# Altium footprint library MULTITESTCARD V1I1.PcbLib: 31 footprints (part 2 of 2)
Each footprint in its own frame and in the unit in brackets; x right, y up, seen from the top. Pads: shape width x height; smd on the part's side, far side on the other; paste and mask are expansions set on the pad; w line width, h text height; cw(c..) or ccw(c..) is an arc to the next point about the centre after c.
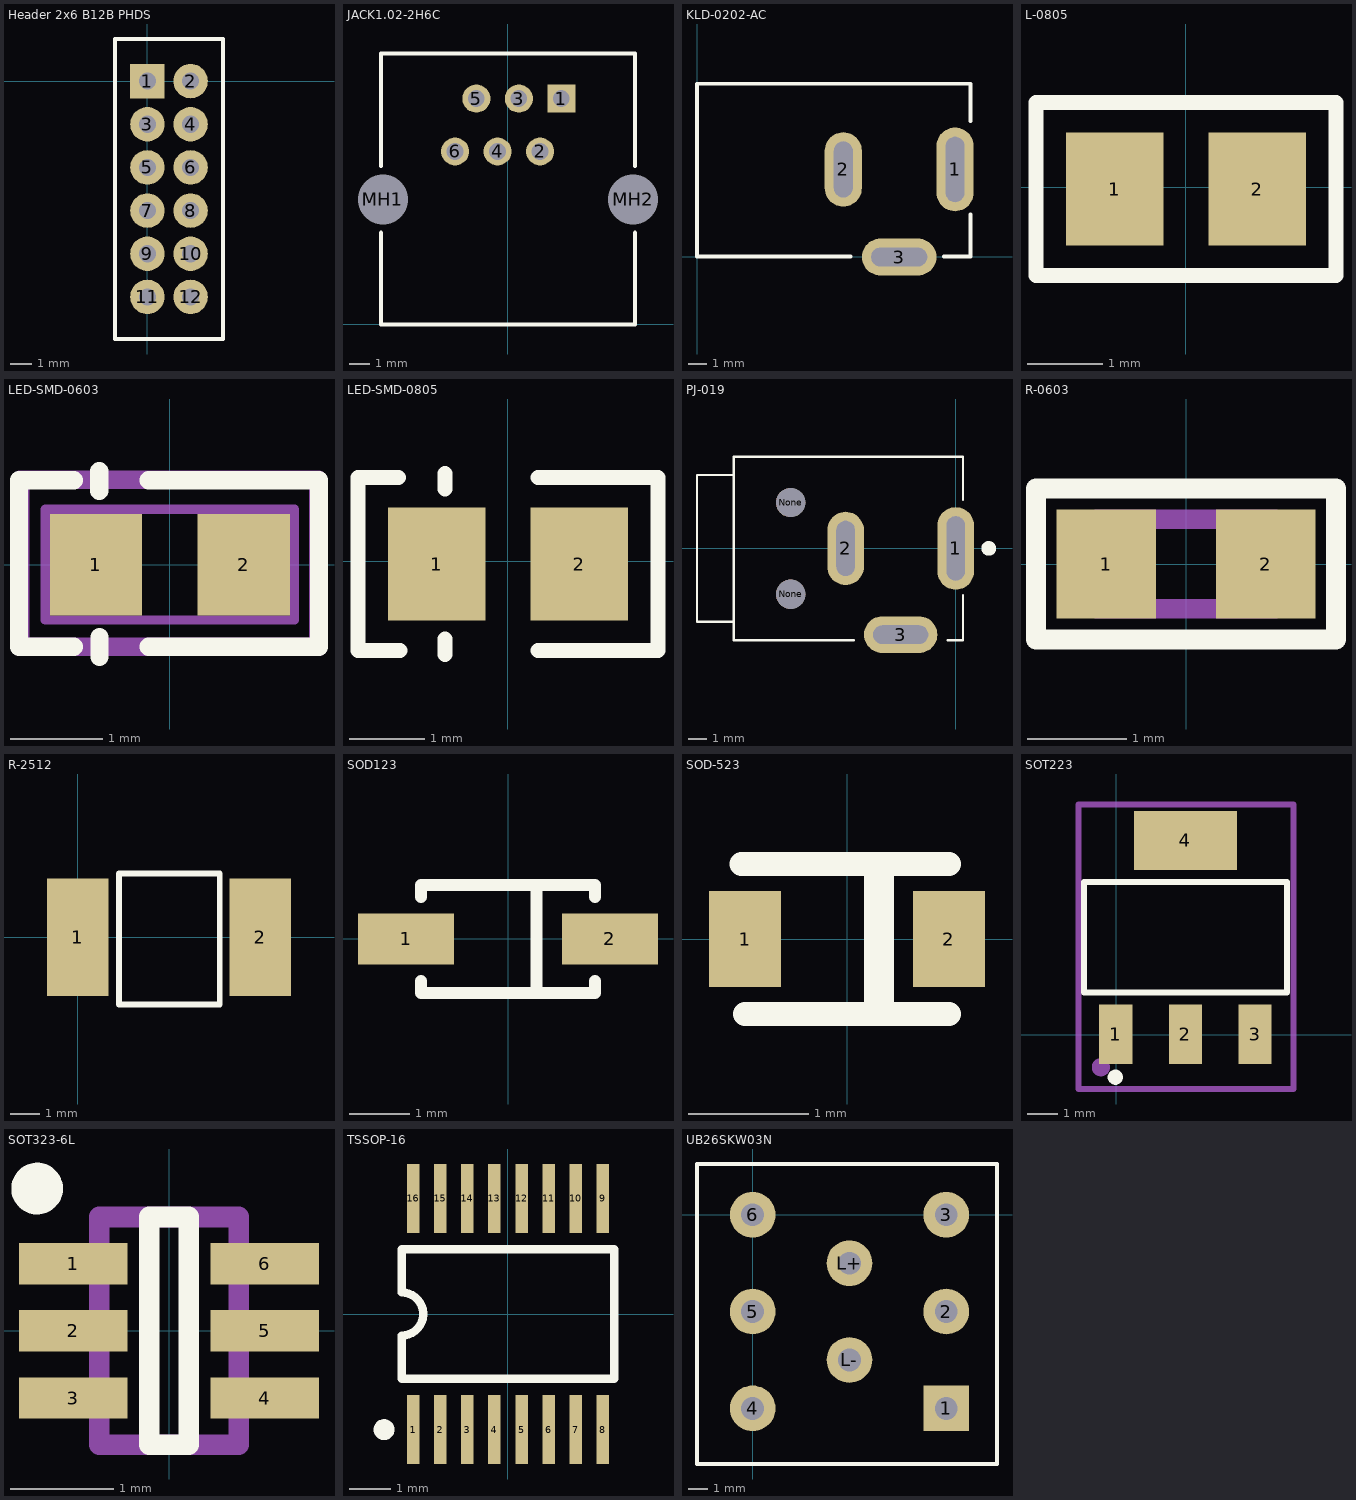
[diagram p1: the footprints below, top view; thin cyan lines are the x and y axes]

## Header 2x6 B12B PHDS [mm]
pads (12):
  rect 1.6x1.6 hole 0.8: 1(0,0)
  round 1.6 hole 0.8: 2(2,0) 3(0,-2) 4(2,-2) 5(0,-4) 6(2,-4) 7(0,-6) 8(2,-6) 9(0,-8) 10(2,-8) 11(0,-10) 12(2,-10)
Top Overlay:
  lines w0.2: -1.5,-11.95 3.5,-11.95 3.5,1.95 -1.5,1.95 -1.5,-11.95
3D body "DF11-12DP-2DSA (2).stp": height 6.86, standoff -2.74, extent -1.444,-11.953 3.556,2.047

## JACK1.02-2H6C [mm] "Connector; PCB Jack, Thru-Hole; 1-Port, 6 Positions, 6 Loaded; Unshielded without Lightpipes; Right Angle"
height 14.5
pads (8):
  rect 1.35x1.35 hole 0.8: 1(2.56,10.84)
  round 1.35 hole 0.8: 2(1.54,8.3) 3(0.52,10.84) 4(-0.5,8.3) 5(-1.52,10.84) 6(-2.54,8.3)
  round 2.1 hole 2.4 unplated: MH1(-6,6) MH2(6,6)
Top Overlay:
  lines w0.2: -6.1,4.4 -6.1,0 6.1,0 6.1,4.4 ; -6.1,7.6 -6.1,13 6.1,13 6.1,7.6
3D body: height 2.95, standoff 0, extent 5.057,5.052 6.95,6.948
3D body: height 2.95, standoff 0, extent -6.943,5.052 -5.05,6.948
3D body "520186646.stp": height 14.5, standoff -4, extent -7.15,0 7.15,13.3

## KLD-0202-AC [mm] "DC Power Jack, 2.5mm, KLD Series, PCB Mount"
pads (3):
  oval 2x4.5 hole 1 slot 3.5 at 90 deg: 1(13.85,4.675)
  oval 2x4 hole 1 slot 3 at 90 deg: 2(7.85,4.675)
  oval 4x2 hole 1 slot 3 at 0 deg: 3(10.85,-0.025)
Top Overlay:
  lines w0.2: 8.25,0 0,0 0,9.275 14.675,9.275 14.675,7.275 ; 13.25,0 14.675,0 14.675,2.275
3D body "pj-002b.stp": height 11.02, standoff -3.48, extent 0.141,-0.251 14.541,9.149

## L-0805 [mm] "0.079\" L x 0.049\" W (2.00mm x 1.25mm)"
height 1.45
pads (2):
  rect 1.3x1.5 smd: 1(-0.95,-0.025) 2(0.95,-0.025)
Top Overlay:
  lines w0.2: -2,-1.175 -2,1.125 0.4,1.125 2,1.125 2,-1.175 0.4,-1.175 -2,-1.175
3D body "User Library-User Library-Chip InductorINDC2012X130N.STEP": height 1.22, standoff 0.02, extent -1,-0.635 1,0.665

## LED-SMD-0603 [mm]
height 1
pads (2):
  rect 1x1.1 smd: 1(-0.8,0) 2(0.8,0)
Top Overlay:
  lines w0.2: -1.634,0.914 -1.634,-0.889 -1.283,-0.889 -1.041,-0.889 ; -1.626,0.914 -1.276,0.914 -1.041,0.914 ; -0.764,0.798 -0.764,1.008 ; -0.762,-0.997 -0.762,-0.787 ; -0.229,-0.889 1.181,-0.889 1.617,-0.889 1.617,0.914 -0.229,0.914
Mechanical 15:
  lines w0.1: -1.35,-0.6 -1.35,0.6 1.35,0.6 1.35,-0.6 -1.35,-0.6
Mechanical 31:
  circle w0.3: c-0.82,0.33 r0.15
  lines w0.2: -1.62,-0.889 -1.62,0.92 1.61,0.92 1.61,-0.889 -1.62,-0.889
  text ".Designator" at -0.34,-0.18 h0.4
3D body "SW3dPS-LED SMD0805.STEP": height 0.85, standoff 0.01, extent -1.031,-0.481 1.031,0.425

## LED-SMD-0805 [mm] "LED CHIPLED 570NM GREEN 0805 SMD"
pads (2):
  rect 1.3x1.5 smd: 1(-0.95,-0.035) 2(0.95,-0.035)
Top Overlay:
  lines w0.2: -1.46,1.115 -2,1.115 -2,-1.185 -1.44,-1.185 ; -0.84,-1.243 -0.84,-1.033 ; -0.84,0.964 -0.84,1.174 ; 0.4,-1.185 2,-1.185 2,1.115 0.4,1.115
3D body "SW3dPS-LED SMD0805.STEP": height 0.85, standoff 0.01, extent -1.031,-0.481 1.031,0.425

## PJ-019 [mm] "DC Power Jack, 2.5mm, KLD Series, PCB Mount"
pads (5):
  oval 2x4.5 hole 1 slot 3.5 at 90 deg: 1(0,0)
  oval 2x4 hole 1 slot 3 at 90 deg: 2(-6,0)
  oval 4x2 hole 1 slot 3 at 0 deg: 3(-3,-4.7)
  round 1.6 hole 1.6 unplated: None(-9,-2.5) None(-9,2.5)
Top Overlay:
  circle w0.4: c1.8,0 r0.2
  lines w0.127: -12.2,-4 -14.1,-4 -14.1,4 -12.2,4 ; -5.55,-5 -12.1,-5 -12.1,5 0.4,5 0.4,2.65 ; -0.45,-5 0.4,-5 0.4,-2.55
3D body "CUI_PJ-019.step": height 11.52, standoff -3.66, extent -14.119,-5 0.381,5

## R-0603 [mm] "RES 0603"
height 1
pads (2):
  rect 1x1.1 smd: 1(-0.8,0) 2(0.8,0)
Top Overlay:
  lines w0.2: -1.508,-0.757 -1.508,0.757 1.508,0.757 1.508,-0.757 -1.508,-0.757
Mechanical 13:
  lines w0.2: -0.9,-0.45 0.9,-0.45 0.9,0.45 -0.9,0.45 -0.9,-0.45
3D body "User Library-Panasonic0603.STEP": height 0.44, standoff -0.01, extent -0.8,-0.435 0.8,0.385

## R-2512 [mm] "RES 2512"
height 1
pads (2):
  rect 2.1x4 smd: 1(0,0) 2(6.2,0)
Top Overlay:
  lines w0.2: 1.397,-2.286 4.826,-2.286 4.826,2.159 1.397,2.159 1.397,-2.286
Mechanical 13:
  lines w0.2: -0.9,-0.45 -0.9,0.45 0.9,0.45 0.9,-0.45 -0.9,-0.45
3D body "CRA2512-FZ-R015ELFDKR-ND.stp": height 0.91, standoff 0, extent -0.152,-1.765 6.502,1.765

## SOD123 [mm] "SOD-123; 2 Leads; Body 2.7 x 1.6 mm, (LxW) Silk con marca en catodo"
height 1.35
pads (2):
  rect 1.6x0.85 smd: 1(-1.7,0) 2(1.7,0)
Top Overlay:
  lines w0.2: -1.45,-0.7 -1.45,-0.9 1.45,-0.9 1.45,-0.7 ; -1.45,0.7 -1.45,0.9 1.45,0.9 1.45,0.7 ; 0.475,-0.9 0.475,0.9
3D body "SW3dPS-sod-123-270x160h115.STEP": height 1.15, standoff 0, extent -1.875,-0.813 1.825,0.787

## SOD-523 [mm] "DIODE SC-79 SOD-523"
height 0.7
pads (2):
  rect 0.6x0.8 smd: 1(-0.85,0) 2(0.85,0)
Top Overlay:
  lines w0.2: -0.881,0.625 0.85,0.625 ; -0.85,-0.624 0.85,-0.624
  lines w0.254: 0.267,-0.535 0.267,0.519
3D body "User Library-SOD523-1.STEP": height 0.7, standoff 0, extent -0.807,-0.399 0.793,0.399

## SOT223 [mm] "Connector LM1117"
pads (4):
  rect 1.1x1.95 smd: 1(-0.008,0.019) 2(2.292,0.019) 3(4.592,0.019)
  rect 3.4x1.95 smd: 4(2.292,6.419)
Top Overlay:
  circle w0.25: c-0.025,-1.4 r0.125
  lines w0.2: -1.058,1.394 5.642,1.394 5.642,5.044 -1.058,5.044 -1.058,1.394
Mechanical 31:
  circle w0.3: c-0.5,-1.07 r0.15
  lines w0.2: -1.24,-1.79 5.86,-1.79 5.86,7.61 -1.24,7.61 -1.24,-1.79
  text ".Designator" at 0.43,2.92 h1.02
3D body "SW3dPS-SOT-223-1.STEP": height 1.67, standoff 0.02, extent -0.95,-0.2 5.55,6.8

## SOT323-6L [mm] "SOT23, 6-Leads, Body 2,00x2,88mm, Pitch 0,65mm, IPC Medium Density"
height 1.1
pads (6):
  rect 1.05x0.4 smd mask+0.08: 1(-0.925,0.65) 2(-0.925,0) 3(-0.925,-0.65) 4(0.925,-0.65) 5(0.925,0) 6(0.925,0.65)
Top Overlay:
  circle w0.25: c-1.275,1.375 r0.125
  lines w0.2: -0.19,-1.1 -0.19,1.1 0.19,1.1 0.19,-1.1 -0.19,-1.1
Mechanical 13:
  lines w0.2: -0.675,-1.1 0.675,-1.1 0.675,1.1 -0.675,1.1 -0.675,-1.1
3D body: height 1.1, standoff 0, extent -0.66,-1.092 0.66,1.092

## TSSOP-16 [mm] "Shrink Small Outline, Plastic, Thin; 16 Leads; Body Width 4.5 mm; Pitch 0.65 mm"
height 1.2
pads (16):
  rect 0.3x1.65 smd: 1(-2.275,-2.775) 2(-1.625,-2.775) 3(-0.975,-2.775) 4(-0.325,-2.775) 5(0.325,-2.775) 6(0.975,-2.775) 7(1.625,-2.775) 8(2.275,-2.775) 9(2.275,2.775) 10(1.625,2.775) 11(0.975,2.775) 12(0.325,2.775) 13(-0.325,2.775) 14(-0.975,2.775) 15(-1.625,2.775) 16(-2.275,2.775)
Top Overlay:
  circle w0.25: c-2.975,-2.775 r0.125
  lines w0.2: -2.55,1.55 -2.55,0.517 cw(c-2.55,0) -2.55,-0.517 -2.55,-1.55 2.55,-1.55 2.55,1.55 -2.55,1.55 ; -2.55,1.55 -2.55,1.55
3D body "SW3dPS-TSSOP-16.STEP": height 1, standoff 0, extent -2.5,-3.175 2.5,3.225

## UB26SKW03N [mm] "UB26SKW03N"
pads (8):
  rect 2.4x2.4 hole 1.2: 1(10.16,-10.16)
  round 2.4 hole 1.2: 2(10.16,-5.08) 3(10.16,0) 4(0,-10.16) 5(0,-5.08) 6(0,0) L+(5.08,-2.54) L-(5.08,-7.62)
Top Overlay:
  lines w0.2: -2.921,-13.081 -2.921,2.667 12.827,2.667 12.827,-13.081 -2.921,-13.081
3D body "UB25SKW03N-G.stp": height 12.5, standoff -3.99, extent -2.667,-12.827 12.573,2.413